# EAGLE library part ISM43340-L77 (library RoboJackets-RF)
RX TXRX MODULE WIFI U.FL SMD Datasheet <https://www.inventeksys.com/wp-content/uploads/ISM43340_Product_Brief-R1.pdf>
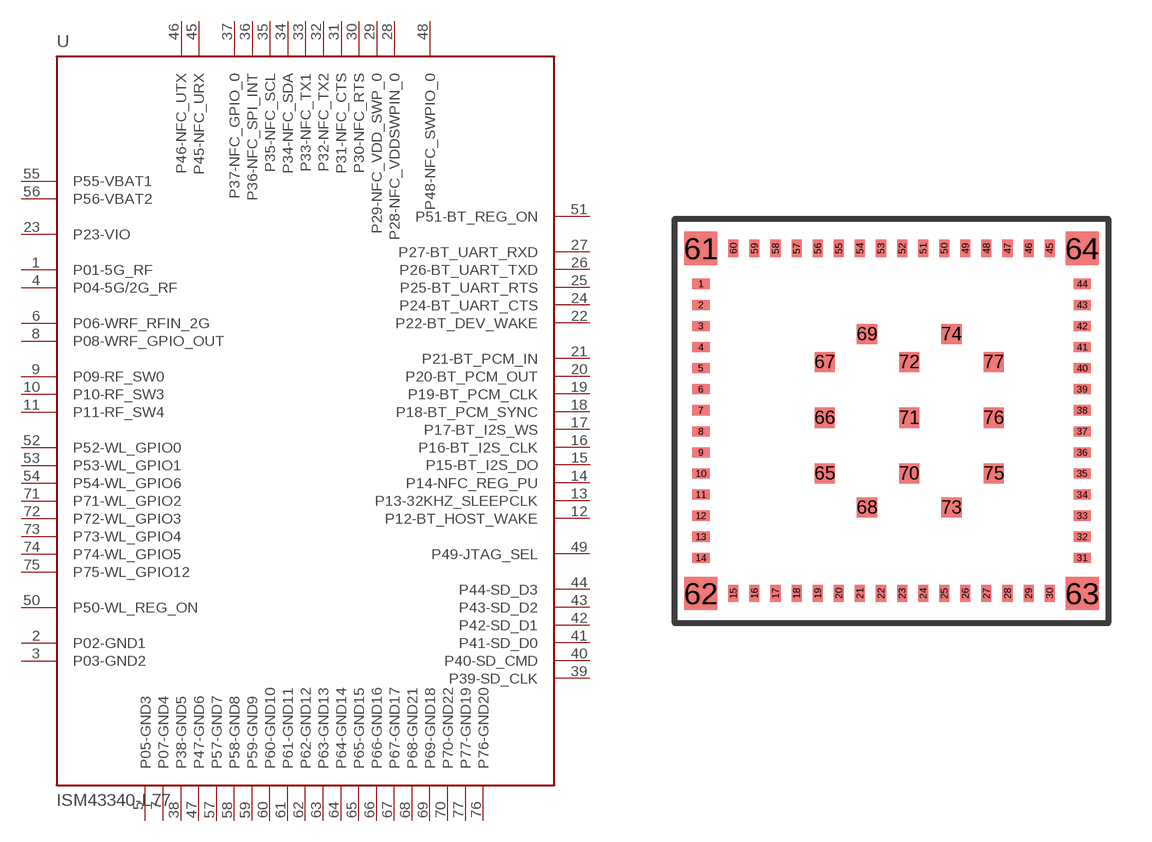
[diagram p4: symbol with the pads of ISM43340-L77; footprint ISM43340-L77]

Designator prefix U

## ISM43340-L77 (DKPN: ISM43340-L77-TR)  [ISM43340-L77]
1  P01-5G_RF  pas
2  P02-GND1  pas
3  P03-GND2  pas
4  P04-5G/2G_RF  pas
5  P05-GND3  pas
6  P06-WRF_RFIN_2G  pas
7  P07-GND4  pas
8  P08-WRF_GPIO_OUT  pas
9  P09-RF_SW0  pas
10  P10-RF_SW3  pas
11  P11-RF_SW4  pas
12  P12-BT_HOST_WAKE  pas
13  P13-32KHZ_SLEEPCLK  pas
14  P14-NFC_REG_PU  pas
15  P15-BT_I2S_DO  pas
16  P16-BT_I2S_CLK  pas
17  P17-BT_I2S_WS  pas
18  P18-BT_PCM_SYNC  pas
19  P19-BT_PCM_CLK  pas
20  P20-BT_PCM_OUT  pas
21  P21-BT_PCM_IN  pas
22  P22-BT_DEV_WAKE  pas
23  P23-VIO  pas
24  P24-BT_UART_CTS  pas
25  P25-BT_UART_RTS  pas
26  P26-BT_UART_TXD  pas
27  P27-BT_UART_RXD  pas
28  P28-NFC_VDDSWPIN_0  pas
29  P29-NFC_VDD_SWP_0  pas
30  P30-NFC_RTS  pas
31  P31-NFC_CTS  pas
32  P32-NFC_TX2  pas
33  P33-NFC_TX1  pas
34  P34-NFC_SDA  pas
35  P35-NFC_SCL  pas
36  P36-NFC_SPI_INT  pas
37  P37-NFC_GPIO_0  pas
38  P38-GND5  pas
39  P39-SD_CLK  pas
40  P40-SD_CMD  pas
41  P41-SD_D0  pas
42  P42-SD_D1  pas
43  P43-SD_D2  pas
44  P44-SD_D3  pas
45  P45-NFC_URX  pas
46  P46-NFC_UTX  pas
47  P47-GND6  pas
48  P48-NFC_SWPIO_0  pas
49  P49-JTAG_SEL  pas
50  P50-WL_REG_ON  pas
51  P51-BT_REG_ON  pas
52  P52-WL_GPIO0  pas
53  P53-WL_GPIO1  pas
54  P54-WL_GPIO6  pas
55  P55-VBAT1  pas
56  P56-VBAT2  pas
57  P57-GND7  pas
58  P58-GND8  pas
59  P59-GND9  pas
60  P60-GND10  pas
61  P61-GND11  pas
62  P62-GND12  pas
63  P63-GND13  pas
64  P64-GND14  pas
65  P65-GND15  pas
66  P66-GND16  pas
67  P67-GND17  pas
68  P68-GND21  pas
69  P69-GND18  pas
70  P70-GND22  pas
71  P71-WL_GPIO2  pas
72  P72-WL_GPIO3  pas
73  P73-WL_GPIO4  pas
74  P74-WL_GPIO5  pas
75  P75-WL_GPIO12  pas
76  P76-GND20  pas
77  P77-GND19  pas

## Footprint ISM43340-L77 (pad centres in mm)
smd 0.6 x 0.35: 1 -6.6,4.745; 2 -6.6,4.015; 3 -6.6,3.285; 4 -6.6,2.555; 5 -6.6,1.825; 6 -6.6,1.095; 7 -6.6,0.365; 8 -6.6,-0.365; 9 -6.6,-1.095; 10 -6.6,-1.825; 11 -6.6,-2.555; 12 -6.6,-3.285; 13 -6.6,-4.015; 14 -6.6,-4.745; 31 6.6,-4.745; 32 6.6,-4.015; 33 6.6,-3.285; 34 6.6,-2.555; 35 6.6,-1.825; 36 6.6,-1.095; 37 6.6,-0.365; 38 6.6,0.365; 39 6.6,1.095; 40 6.6,1.825; 41 6.6,2.555; 42 6.6,3.285; 43 6.6,4.015; 44 6.6,4.745
smd 0.35 x 0.6: 15 -5.475,-5.975; 16 -4.745,-5.975; 17 -4.015,-5.975; 18 -3.285,-5.975; 19 -2.555,-5.975; 20 -1.825,-5.975; 21 -1.095,-5.975; 22 -0.365,-5.975; 23 0.365,-5.975; 24 1.095,-5.975; 25 1.825,-5.975; 26 2.555,-5.975; 27 3.285,-5.975; 28 4.015,-5.975; 29 4.745,-5.975; 30 5.475,-5.975; 45 5.475,5.975; 46 4.745,5.975; 47 4.015,5.975; 48 3.285,5.975; 49 2.555,5.975; 50 1.825,5.975; 51 1.095,5.975; 52 0.365,5.975; 53 -0.365,5.975; 54 -1.095,5.975; 55 -1.825,5.975; 56 -2.555,5.975; 57 -3.285,5.975; 58 -4.015,5.975; 59 -4.745,5.975; 60 -5.475,5.975
smd 1.15 x 1.15: 61 -6.6,5.975; 62 -6.6,-5.975; 63 6.6,-5.975; 64 6.6,5.975
smd 0.7 x 0.7: 65 -2.31,-1.823; 66 -2.31,0.107; 67 -2.31,2.038; 68 -0.848,-3.003; 69 -0.848,3.003; 70 0.614,-1.823; 71 0.614,0.107; 72 0.614,2.038; 73 2.076,-3.003; 74 2.076,3.003; 75 3.538,-1.823; 76 3.538,0.107; 77 3.538,2.038